# EAGLE library part GPS* (library NewSDR)
Jackson Labs Eurocan Integrated GPSDO (GPSOCXO)
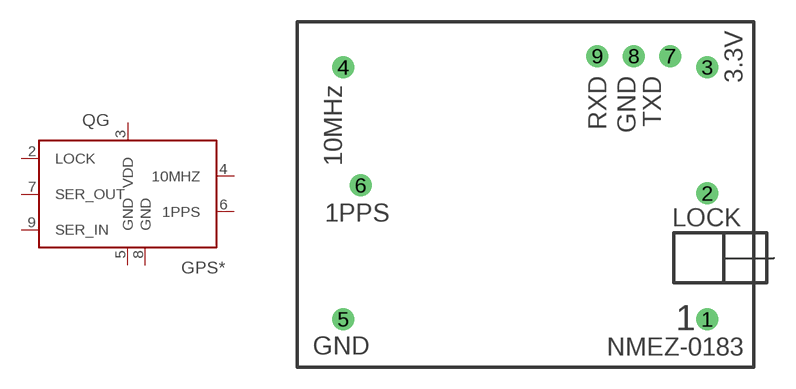
[diagram p159: symbol with the pads of GPS; footprint GPS]

Designator prefix QG

## GPSDO (OSCILLATOR: TCXO), GPSOCXO (OSCILLATOR: OCXO)  [GPS]
2  LOCK  out
3  VDD  pwr
4  10MHZ  out
5  GND  pwr
6  1PPS  out
7  SER_OUT  out
8  GND  pwr
9  SER_IN  in

## Footprint GPS (pad centres in mm)
Jackson Labs Eurocan GPS Footprint
drill 1.016: 1 28.626,3.353; 2 28.626,12.141; 3 28.626,20.93; 4 3.226,20.93; 5 3.226,3.353; 6 4.445,12.7; 7 26.035,21.717; 8 23.495,21.717; 9 20.955,21.717